# EAGLE library part LTC3780EG#PBF (library LTC3780EG#PBF)
LINEAR TECHNOLOGY - LTC3780EG#PBF - DC/DC Controller, 4V to 36V, 1 Output, Synchronous Boost, Synchronous Buck, 440kHz, SSOP-24 Source: Datasheet <https://datasheet.datasheetarchive.com/originals/distributors/Datasheets-SFU1/DSASFU10009110.pdf>
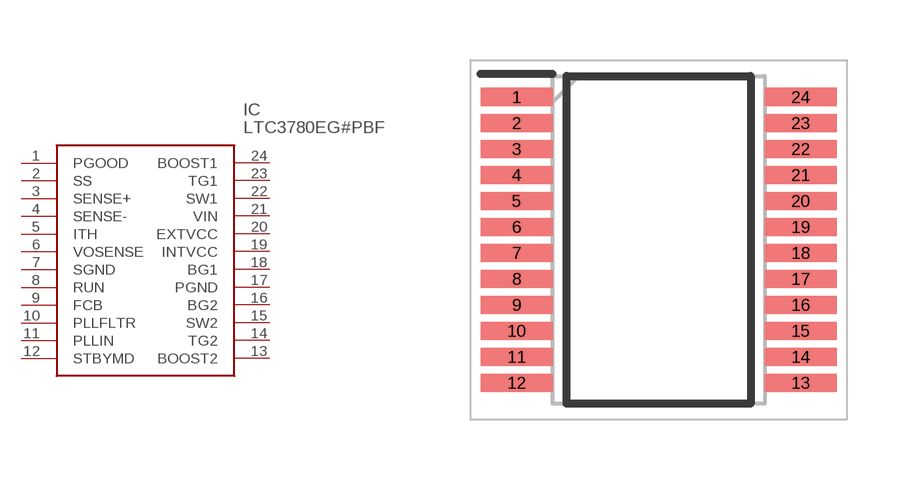
[diagram p0: symbol with the pads of SOP65P780X200-24N; footprint SOP65P780X200-24N]

Designator prefix IC

## LTC3780EG#PBF (Arrow_Part_Number: LTC3780EG#PBF; Arrow_Price-Stock: https://www.arrow.com/en/products/ltc3780egpbf/linear-technology; Description: LINEAR TECHNOLOGY - LTC3780EG#PBF - DC/DC Controller, 4V to 36V, 1 Output, Synchronous Boost, Synchronous Buck, 440kHz, SSOP-24; Height: 2mm; Manufacturer_Name: Linear Technology; Manufacturer_Part_Number: LTC3780EG#PBF; Mouser_Part_Number: 584-LTC3780EG#PBF; Mouser_Price-Stock: https://www.mouser.co.uk/ProductDetail/Analog-Devices-Linear-Technology/LTC3780EGPBF?qs=hVkxg5c3xu%252BOBZugU8NO3w%3D%3D)  [SOP65P780X200-24N]
1  PGOOD
2  SS
3  SENSE+
4  SENSE-
5  ITH
6  VOSENSE
7  SGND
8  RUN
9  FCB
10  PLLFLTR
11  PLLIN
12  STBYMD
13  BOOST2
14  TG2
15  SW2
16  BG2
17  PGND
18  BG1
19  INTVCC
20  EXTVCC
21  VIN
22  SW1
23  TG1
24  BOOST1

## Footprint SOP65P780X200-24N (pad centres in mm)
24-Lead Plastic SSOP (5.3mm)
smd 1.8 x 0.45: 1 -3.55,3.575; 2 -3.55,2.925; 3 -3.55,2.275; 4 -3.55,1.625; 5 -3.55,0.975; 6 -3.55,0.325; 7 -3.55,-0.325; 8 -3.55,-0.975; 9 -3.55,-1.625; 10 -3.55,-2.275; 11 -3.55,-2.925; 12 -3.55,-3.575; 13 3.55,-3.575; 14 3.55,-2.925; 15 3.55,-2.275; 16 3.55,-1.625; 17 3.55,-0.975; 18 3.55,-0.325; 19 3.55,0.325; 20 3.55,0.975; 21 3.55,1.625; 22 3.55,2.275; 23 3.55,2.925; 24 3.55,3.575